# Altium schematic symbol library 471001264143.SchLib: 1 symbol
Pins are listed as number, name and electrical type; pins without a type are passive.

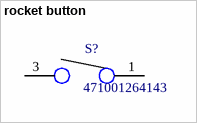
[diagram p0: symbol rocket button]

## rocket button
designator S?, comment 471001264143
SnapEDA_Link: https://www.snapeda.com/parts/471001264143/Wurth%20Electronics%20Inc./view-part/3077764/?ref=snap; Value: *
footprint *471001264143(0,75-1,25)
pins: 1, 3 2